# EAGLE library part PESD3V3L5UV (library WCSMain)
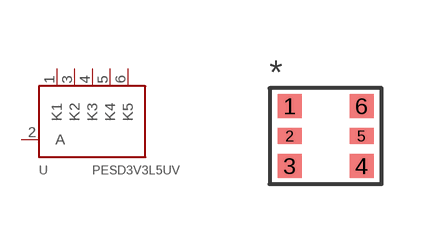
[diagram p8: symbol with the pads of SOT666; footprint SOT666]

Designator prefix -

## PESD3V3L5UV  [SOT666]
1  K1  pas
2  A  pas
3  K2  pas
4  K3  pas
5  K4  pas
6  K5  pas

## Footprint SOT666 (pad centres in mm)
smd 0.6 x 0.6: 1 -0.9,0.75; 3 -0.9,-0.75; 4 0.9,-0.75; 6 0.9,0.75
smd 0.6 x 0.4: 2 -0.9,0; 5 0.9,0